# Altium schematic symbol library Schlib_Taiwan_Semiconductor.SchLib: 3 symbols
Pins are listed as number, name and electrical type; pins without a type are passive.

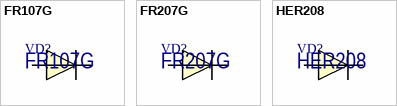
[diagram p0: symbols FR107G to HER208]

## FR107G
designator VD?
Diode 1A, 1000V Glass Passivated Fast Recovery Rectifiers; Manufacturer: Taiwan Semiconductor Corporation; Package: DO-41; Part Number: FR107G
footprint DO-41
footprint DO-41(VERTICAL)
pins: 1 C, 2 A

## FR207G
designator VD?
Diode 2A, 1000V Glass Passivated Fast Recovery Rectifiers; Manufacturer: Taiwan Semiconductor Corporation; Package: DO-15; Part Number: FR207G
footprint DO-15
footprint DO-15(VERTICAL)
pins: 1 C, 2 A

## HER208
designator VD?
Diode 2A, 1000V High Efficiency Rectifiers; Manufacturer: Taiwan Semiconductor Corporation; Package: DO-15; Part Number: HER208
footprint DO-15
footprint DO-15(VERTICAL)
pins: 1 C, 2 A